# EAGLE library part AMP03 (library 1A-meinLib)
Precision Unity Gain differential Amplifier, Anaolg Device
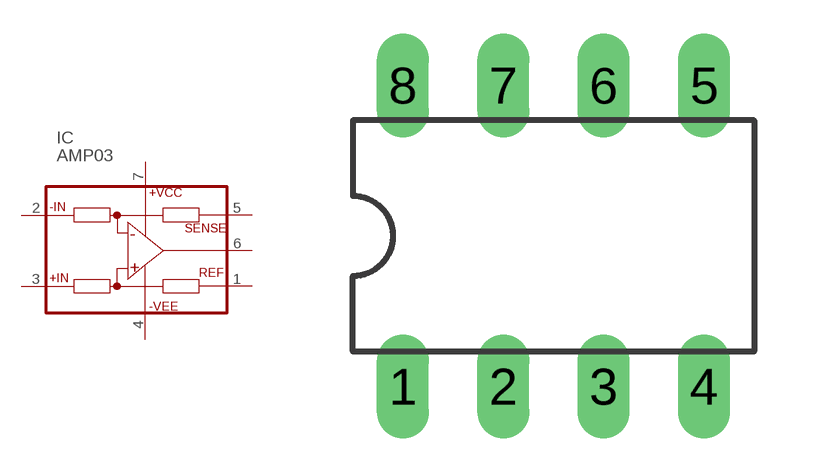
[diagram p268: symbol with the pads of DIL08; footprint DIL08]

Designator prefix IC

## AMP03  [DIL08]
1  REFERENCE  pwr
2  -IN  pwr
3  +IN  pwr
4  -VEE  pwr
5  SENSE  pwr
6  OUTPUT  out
7  +VCC  pwr

## Footprint DIL08 (pad centres in mm)
Dual In Line Package
drill 0.813 long: 1 -3.81,-3.81; 2 -1.27,-3.81; 3 1.27,-3.81; 4 3.81,-3.81; 5 3.81,3.81; 6 1.27,3.81; 7 -1.27,3.81; 8 -3.81,3.81